# Altium schematic symbol library SOILHUMIDITY.SchLib: 3 symbols
Pins are listed as number, name and electrical type; pins without a type are passive.

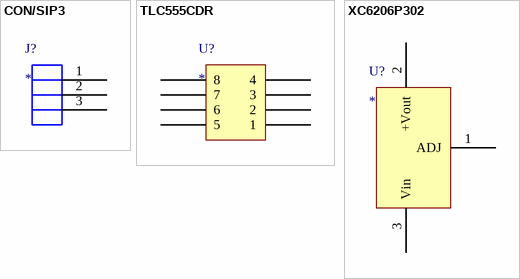
[diagram p0: symbols CON/SIP3 to XC6206P302]

## CON/SIP3
designator J?
pins: 1, 2, 3

## TLC555CDR
designator U?
pins: 1, 2, 3, 4, 5, 6, 7, 8

## XC6206P302
designator U?
pins: 1 ADJ, 2 +Vout, 3 Vin